# EAGLE library part L293 (library steves)
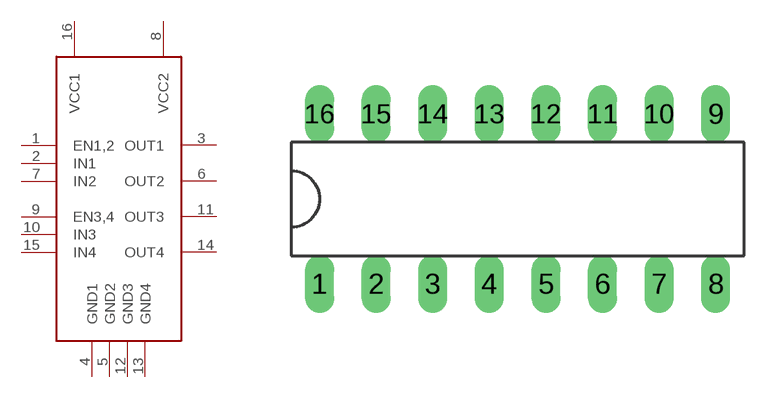
[diagram p3: symbol with the pads of DIL16; footprint DIL16]

Designator prefix U

## L293N  [DIL16]
1  EN1,2  in
2  IN1  in
3  OUT1  out
4  GND1  pwr
5  GND2  pwr
6  OUT2  out
7  IN2  in
8  VCC2  pwr
9  EN3,4  in
10  IN3  in
11  OUT3  out
12  GND3  pwr
13  GND4  pwr
14  OUT4  out
15  IN4  in
16  VCC1  pwr

## Footprint DIL16 (pad centres in mm)
Standard 16-pin DIL pad, 0.3 spacing.
drill 0.8 long: 1 0,0; 2 2.54,0; 3 5.08,0; 4 7.62,0; 5 10.16,0; 6 12.7,0; 7 15.24,0; 8 17.78,0; 9 17.78,7.62; 10 15.24,7.62; 11 12.7,7.62; 12 10.16,7.62; 13 7.62,7.62; 14 5.08,7.62; 15 2.54,7.62; 16 0,7.62